# Altium footprint library ADP_DIP.PcbLib: 24 footprints (part 1 of 2)
Each footprint in its own frame and in the unit in brackets; x right, y up, seen from the top. Pads: shape width x height; smd on the part's side, far side on the other; paste and mask are expansions set on the pad; w line width, h text height; cw(c..) or ccw(c..) is an arc to the next point about the centre after c.
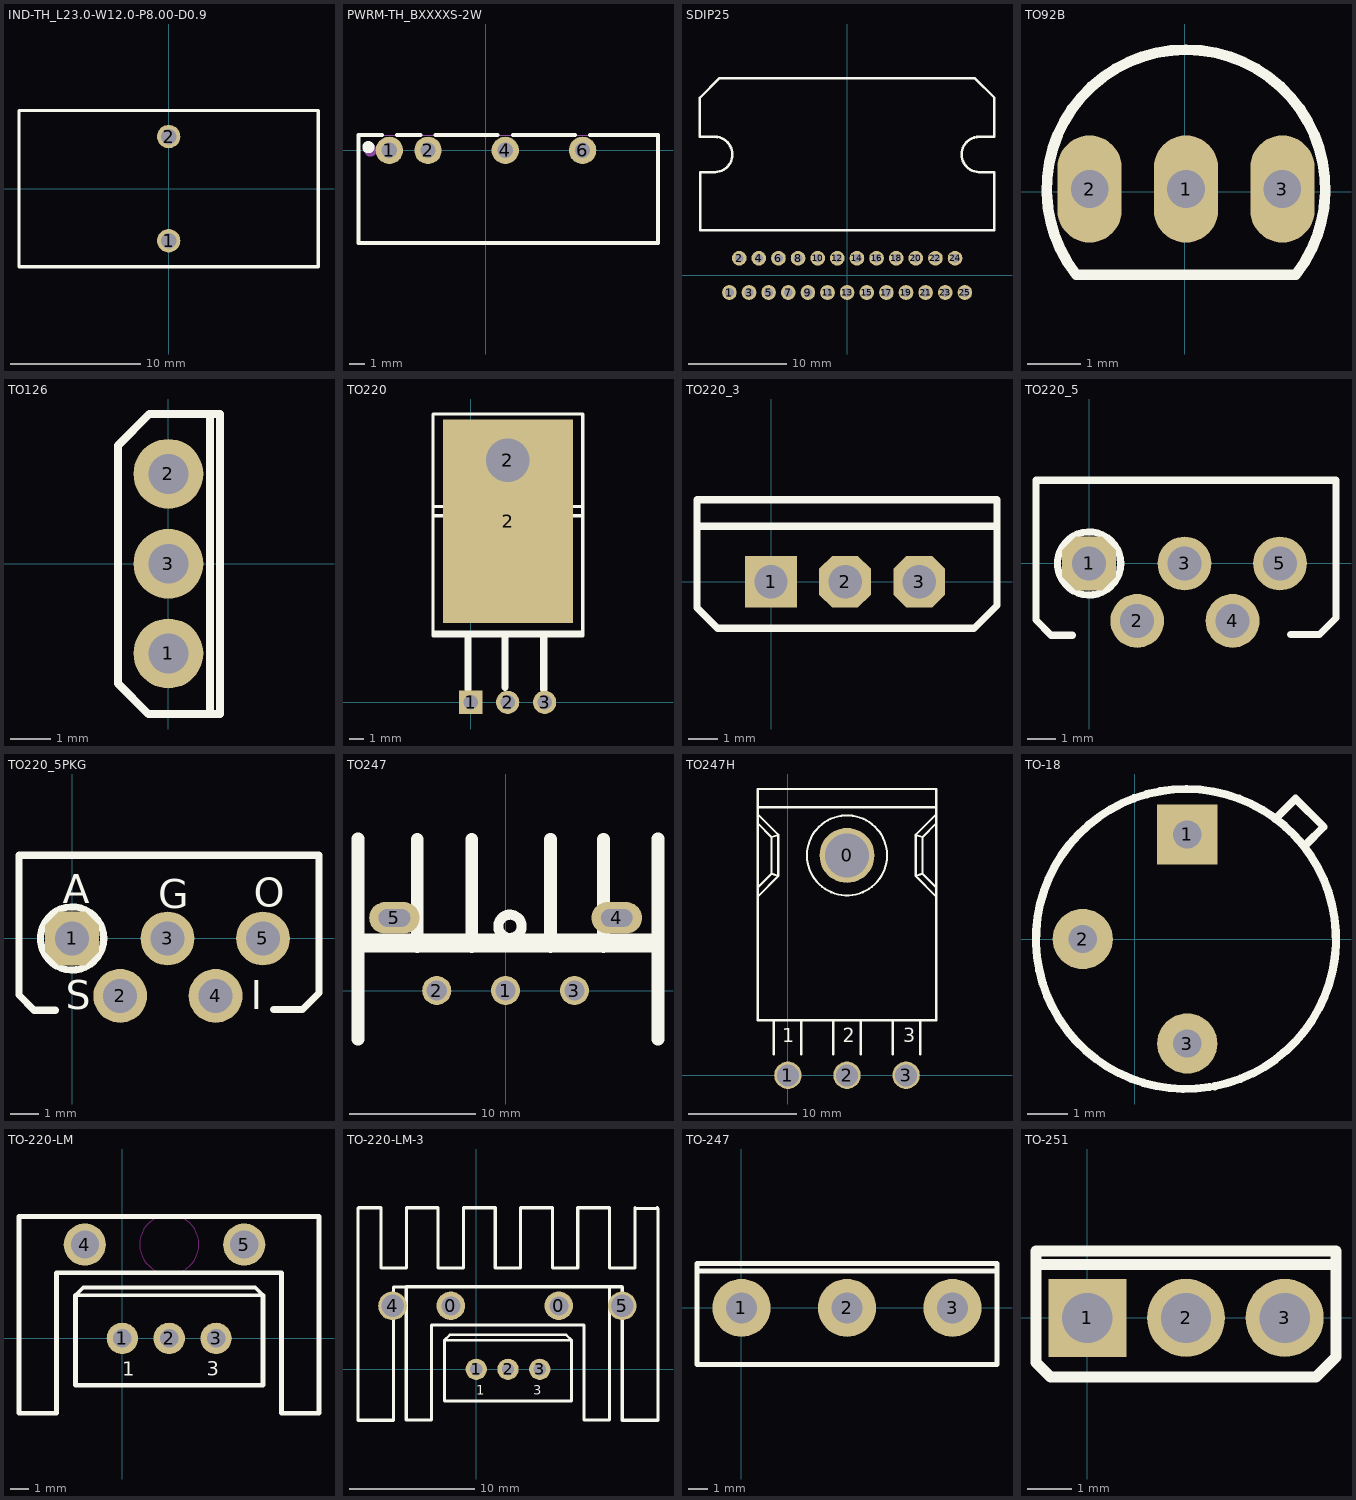
[diagram p0: the footprints below, top view; thin cyan lines are the x and y axes]

## IND-TH_L23.0-W12.0-P8.00-D0.9 [mm]
pads (2):
  round 1.8 hole 1.2 paste+0 mask+0.05: 1(0,-4) 2(0,4)
Top Overlay:
  lines w0.254: -11.5,-6 11.5,-6 11.5,6 -11.5,6 -11.5,-6
Mechanical 15:
  region: 0.45,-4 0.45,-3.91 0.381,-3.745 0.255,-3.619 0.09,-3.55 -0.09,-3.55 -0.255,-3.619 -0.381,-3.745 -0.45,-3.91 -0.45,-4 -0.45,-4.09 -0.381,-4.255 -0.255,-4.381 -0.09,-4.45 0.09,-4.45 0.255,-4.381 0.381,-4.255 0.45,-4.09 0.45,-4
  region: 0.45,4 0.45,4.09 0.381,4.255 0.255,4.381 0.09,4.45 -0.09,4.45 -0.255,4.381 -0.381,4.255 -0.45,4.09 -0.45,4 -0.45,3.91 -0.381,3.745 -0.255,3.618 -0.09,3.55 0.09,3.55 0.255,3.618 0.381,3.745 0.45,3.91 0.45,4
  region: 11.56,-6 11.56,-5.975 11.525,-5.94 11.475,-5.94 11.44,-5.975 11.44,-6 11.44,-6.025 11.475,-6.06 11.525,-6.06 11.56,-6.025 11.56,-6
  lines w0.051: -11.5,-6 11.5,-6 11.5,6 -11.5,6 -11.5,-6

## PWRM-TH_BXXXXS-2W [mm]
pads (4):
  round 1.8 hole 1: 1(-6.35,0) 2(-3.81,0) 4(1.27,0) 6(6.35,0)
Top Overlay:
  circle w0.4: c-7.73,0.21 r0.2
  lines w0.254: -6.844,1.016 -8.382,1.016 -8.382,-6.096 11.303,-6.096 11.303,1.016 10.922,1.016 6.844,1.016 ; -5.856,1.016 -4.304,1.016 ; -3.316,1.016 0.776,1.016 ; 1.764,1.016 5.856,1.016
Mechanical 6:
  circle w0.4: c-7.59,-0.01 r0.2
Mechanical 15:
  region: -6.7,0.15 -6,0.15 -6,-0.15 -6.7,-0.15
  region: -4.16,0.15 -3.46,0.15 -3.46,-0.15 -4.16,-0.15
  region: 0.92,0.15 1.62,0.15 1.62,-0.15 0.92,-0.15
  region: 6,0.15 6.7,0.15 6.7,-0.15 6,-0.15
  region: -8.29,-6.02 -8.29,-5.995 -8.325,-5.96 -8.375,-5.96 -8.41,-5.995 -8.41,-6.02 -8.41,-6.045 -8.375,-6.08 -8.325,-6.08 -8.29,-6.045 -8.29,-6.02
  lines w0.051: -8.35,-6.02 -8.35,0.98 11.25,0.98 11.25,-6.02 -8.35,-6.02

## SDIP25 [mm]
pads (25):
  round 1.5 hole 0.9: 1(-12,-1.75) 2(-11,1.75) 3(-10,-1.75) 4(-9,1.75) 5(-8,-1.75) 6(-7,1.75) 7(-6,-1.75) 8(-5,1.75) 9(-4,-1.75) 10(-3,1.75) 11(-2,-1.75) 12(-1,1.75) 13(0,-1.75) 14(1,1.75) 15(2,-1.75) 16(3,1.75) 17(4,-1.75) 18(5,1.75) 19(6,-1.75) 20(7,1.75) 21(8,-1.75) 22(9,1.75) 23(10,-1.75) 24(11,1.75) 25(12,-1.75)
Top Overlay:
  lines w0.254: -14.986,10.505 -14.986,4.6 15,4.6 15,10.53 ; -14.986,10.53 -13.437,10.53 ; -13.538,14.137 -15,14.137 -15,18.1 -13,20.1 13,20.1 15,18.1 15,14.137 ; 13.386,14.137 14.975,14.137 ; 13.437,10.53 14.975,10.53
  lines w0.257: -13.459,14.12 cw(c-13.5,12.321) -13.451,10.521 ; 13.426,14.12 ccw(c13.475,12.321) 13.433,10.521
3D body "HZIP25.step": height 19.2, standoff -2.5, extent -14.063,-1.882 15.138,6.528

## TO92B [mm] "TO, Flat Index; 3 In-Line, Axial Leads; Body Dia. 4.8mm; Leads 0.48 x 0.5 mm (max)"
height 5.33
pads (3):
  oval 1.2x2 hole 0.7: 1(0.025,0.051) 2(-1.775,0.051) 3(1.825,0.051)
Top Overlay:
  lines w0.2: -2.023,-1.55 cw(c0.025,0.051) 2.074,-1.55 ; -1.965,-1.549 2.015,-1.549
3D body "TO-92S.STEP": height 6.1, standoff -4.5, extent -2.271,-1.21 2.321,2.347

## TO126 [mm] "BD135"
pads (3):
  round 1.75 hole 1: 1(0,-2.25) 2(0,2.25) 3(0,0)
Top Overlay:
  lines w0.2: 1.041,-3.734 1.041,3.734 ; -1.268,-3.005 -1.268,2.964 -0.48,3.752 1.295,3.752 1.295,-3.767 -0.506,-3.767 -1.268,-3.005
3D body "BD135 (TO-126 SOT32) v4.step": height 14.6, standoff -3.35, extent -1.797,-3.934 0.903,3.866

## TO220 [mm]
pads (5):
  rect 1.6x1.6 hole 1: 1(0,0)
  round 1.6 hole 1: 2(2.54,0) 3(5.08,0)
  round 4 hole 3: 2(2.54,16.637)
  rect 8.9x14 smd: 2(2.565,12.446)
Top Overlay:
  lines w0.22: -2.591,4.699 7.696,4.699 ; -2.591,4.826 7.696,4.826 ; -2.591,12.827 7.696,12.827 ; -2.591,13.462 7.696,13.462 ; -2.591,19.05 -2.591,19.812 7.696,19.812 7.696,4.572 -2.591,4.572 -2.591,19.558
  lines w0.5: -0.178,0.889 -0.178,4.572 ; 2.362,1.016 2.362,4.699 ; 5.029,0.889 5.029,4.572
3D body "User Library-TO220 L.STEP": height 4.5, standoff -3, extent -2.638,-0.127 7.362,19.577

## TO220_3 [mil]
pads (3):
  rect 70x70 hole 45: 1(0,0)
  oct 70x70 hole 45: 2(100,0) 3(200,0)
Top Overlay:
  lines w10: -94,75 302,75 ; -100,-35 -72,-63 274,-63 305,-32 305,111 -100,111 -100,-35
3D body "TO220_3.STEP": height 728.35, standoff -389.76, extent -104.45,-72.17 305,105

## TO220_5 [mm]
pads (5):
  oct 1.905x1.905 hole 1.2: 1(0,0)
  round 1.905 hole 1.2: 2(1.702,-2.032) 3(3.378,0) 4(5.08,-2.032) 5(6.756,0)
Top Overlay:
  circle w0.254: c0,0 r1.118
  lines w0.254: -0.584,-2.54 -1.346,-2.54 -1.88,-2.006 -1.88,1.34 -1.88,2.946 8.74,2.946 8.74,1.432 8.74,-1.928 8.151,-2.517 7.135,-2.517
3D body "TO220-5.STEP": height 19.35, standoff -2.26, extent -1.68,-2.1 8.48,2.8

## TO220_5PKG [mm]
pads (5):
  oct 1.905x1.905 hole 1.2: 1(0,0)
  round 1.905 hole 1.2: 2(1.702,-2.032) 3(3.378,0) 4(5.08,-2.032) 5(6.756,0)
Top Overlay:
  circle w0.254: c0,0 r1.118
  lines w0.254: -0.584,-2.54 -1.346,-2.54 -1.88,-2.006 -1.88,1.34 -1.88,2.946 8.74,2.946 8.74,1.432 8.74,-1.928 8.151,-2.517 7.135,-2.517
  text "A" at -0.33,1.245 h1.02
  text "S" at -0.229,-2.515 h1.02
  text "I" at 6.325,-2.515 h1.02
  text "G" at 3.048,1.067 h1.02
  text "O" at 6.426,1.118 h1.02
3D body "TO220-5.STEP": height 19.35, standoff -2.26, extent -1.68,-2.1 8.48,2.8

## TO247 [mm]
pads (5):
  round 2.3 hole 1.6: 1(0,0) 2(-5.45,0) 3(5.45,0)
  oval 4x2.5 hole 1.4 slot 2.5 at 0 deg: 4(8.8,5.75) 5(-8.8,5.75)
Top Overlay:
  circle w0.8: c0.345,5.08 r0.925
  lines w1: -11.684,-3.849 -11.684,12.006 ; -6.985,3.486 -6.985,11.986 ; -2.667,3.486 -2.667,11.986 ; 3.556,3.486 3.556,11.986 ; 7.747,3.486 7.747,11.986 ; 12.065,-3.849 12.065,12.006
  lines w1.5: -11.43,3.75 11.43,3.75
Mechanical 15:
  lines w0.1: -0.5,0 0.5,0 ; 0,-0.5 0,0.5
3D body "User Library-TO_247.STEP": height 25, standoff -11.05, extent -7.9,-2.337 7.9,2.973

## TO247H [mil]
pads (4):
  round 200 hole 160: 0(215,800)
  round 100 hole 80: 1(0,0) 2(215,0) 3(430,0)
Top Overlay:
  circle w7.87: c215,800 r145.6
  lines w7.87: -110,650 -35,725 ; -110,683.33 -60,733.33 ; -110,916.67 -60,866.67 ; -110,950 -35,875 ; -110,975 540,975 ; -51.67,75 -51.67,200 ; 48.33,75 48.33,200 ; 165,75 165,200 ; 265,75 265,200 ; 381.67,75 381.67,200 ; 481.67,75 481.67,200 ; 540,650 465,725 ; 540,683.33 490,733.33 ; 540,916.67 490,866.67 ; 540,950 465,875 ; -60,733.33 -35,725 ; -60,733.33 -60,866.67 ; -60,866.67 -35,875 ; -35,725 -35,875 ; 465,725 490,733.33 ; 465,725 465,875 ; 465,875 490,866.67 ; 490,733.33 490,866.67 ; -110,200 -110,1041.67 540,1041.67 540,200 -110,200
  text "3" at 420,120 h50
  text "2" at 200,120 h50
  text "1" at -20,120 h50
3D body "User Library-TO-247H.STEP": height 153.54, standoff -314.96, extent -90,0 520.24,1000

## TO-18 [mm]
pads (3):
  rect 1.5x1.5 hole 0.7: 1(1.302,2.603)
  round 1.5 hole 0.7: 2(-1.302,0) 3(1.302,-2.603)
Top Overlay:
  lines w0.2: 3.492,2.984 4,3.492 4.699,2.794 4.255,2.349
  lines w0.203: 1.856,-3.689 cw(c1.27,0) 1.985,-3.666
3D body "TO-18_2N2222.step": height 6.6, standoff -1.79, extent -1.53,-2.8 4.078,2.808

## TO-220-LM [mm]
pads (5):
  round 1.7 hole 1: 1(0,0) 2(2.54,0) 3(5.08,0)
  round 2.286 hole 1.524: 4(-2.032,5.08) 5(6.604,5.08)
Top Overlay:
  lines w0.2: -2.54,2.328 7.62,2.328 7.197,2.752 -2.117,2.752 -2.54,2.328
  lines w0.254: -2.54,2.328 -2.54,-2.529 -2.529,-2.54 7.609,-2.54 7.62,-2.529 7.62,2.328 ; 10.657,3.556 10.657,6.604 ; 10.657,6.604 10.657,-4.064 8.625,-4.064 8.625,3.556 -3.567,3.556 -3.567,-4.064 -5.599,-4.064 -5.599,1.016 -5.599,3.556 -5.599,6.604 10.657,6.604
  text "3" at 4.572,-2.032 h0.76
  text "1" at 0,-2.032 h0.76
Keep-Out Layer:
  circle w0.025: c2.545,5.094 r1.606
3D body "User Library-Package T0-220AB With Heatsing Vertical Mount-1.STEP": height 21.07, standoff -4.86, extent -5.96,-5.775 11.04,4.445

## TO-220-LM-3 [mil]
height 1181.1
pads (7):
  round 90 hole 60: 0(-80,200) 0(260,200)
  round 66.93 hole 39.37: 1(0,0) 2(100,0) 3(200,0)
  round 90 hole 70.87: 4(-263.72,199.65) 5(459.82,199.65)
Top Overlay:
  lines w7.87: -100,91.67 -83.33,108.33 283.33,108.33 300,91.67 -100,91.67
  lines w10: -372.44,379.39 -372.44,507.14 ; -372.44,391.91 -372.44,507.14 ; -100,91.67 -100,-99.56 -99.56,-100 299.56,-100 300,-99.56 300,91.67 ; 419.56,140 419.56,260 ; 459.82,119.65 459.82,199.65 ; 570.28,508.93 572.44,506.77 ; 572.44,387.75 572.44,506.77 ; -372.44,507.14 -372.44,-160.61 -260.18,-160.61 -260.18,259.65 -220.78,259.65 -220.44,260 ; -372.44,507.14 -370.65,508.93 -300.18,508.93 -300.18,319.39 -220.18,319.39 -220.18,508.93 -120.18,508.93 -120.18,319.39 -40.18,319.39 -40.18,508.93 59.82,508.93 59.82,319.39 139.82,319.39 139.82,508.93 239.82,508.93 239.82,319.39 319.82,319.39 319.82,508.93 399.82,508.93 419.82,508.93 419.82,319.39 499.82,319.39 499.82,508.93 501.97,506.77 572.44,506.77 ; -220.44,260 419.56,260 ; -220.44,260 -220.44,140 -220.44,40 -220.44,-160 -140.44,-160 -140.44,140 339.56,140 339.56,-160 419.56,-160 419.56,260 ; 419.56,260 459.47,260 459.82,259.65 459.82,-160.61 572.44,-160.61 572.44,506.77
  text "1" at 0,-80 h30
  text "3" at 180,-80 h30

## TO-247 [mm]
height 0.9
pads (3):
  round 3 hole 1.6: 1(0,0) 2(5.45,0) 3(10.9,0)
Top Overlay:
  lines w0.254: -2.297,1.905 13.07,1.905 ; -2.297,-2.921 -2.297,2.286 13.197,2.286 13.197,-2.921 -2.297,-2.921
3D body "TO247.STEP": height 26.16, standoff -15.75, extent -2.644,-3.192 13.616,2.108

## TO-251 [mil]
height 35.43
pads (3):
  rect 70x70 hole 45: 1(0,0)
  round 70 hole 45: 2(88.5,0) 3(177,0)
Top Overlay:
  lines w10: -46,48 222,48 ; -46,-40 -46,60 223,60 223,-35 205,-53 -33,-53 -46,-40
3D body "to-251aa.step": height 388.43, standoff -281.5, extent -38.95,-44 216.95,46.55